# EAGLE library part PH128128C (library lcd)
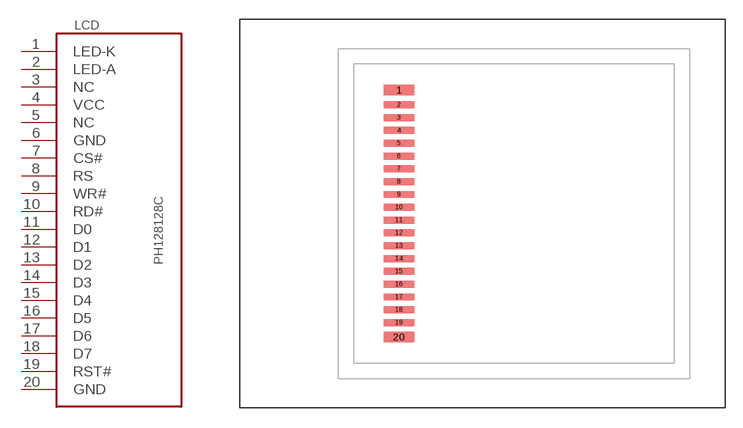
[diagram p3: symbol with the pads of PH128128C; footprint PH128128C]

Designator prefix LCD

## PH128128C-026, PH128128C-033  [PH128128C]
1  LED-K  pwr
2  LED-A  pwr
3  NC  nc
4  VCC  pwr
5  NC  nc
6  GND  pwr
7  CS#  in
8  RS  in
9  WR#  in
10  RD#  in
11  D0
12  D1
13  D2
14  D3
15  D4
16  D5
17  D6
18  D7
19  RST#  in
20  GND  pwr

## Footprint PH128128C (pad centres in mm)
smd 2.6 x 0.9: 1 0,10.6; 20 0,-10.6
smd 2.6 x 0.6: 2 0,9.35; 3 0,8.25; 4 0,7.15; 5 0,6.05; 6 0,4.95; 7 0,3.85; 8 0,2.75; 9 0,1.65; 10 0,0.55; 11 0,-0.55; 12 0,-1.65; 13 0,-2.75; 14 0,-3.85; 15 0,-4.95; 16 0,-6.05; 17 0,-7.15; 18 0,-8.25; 19 0,-9.35